# EAGLE library part SWD-20 (library mbed-HDK)
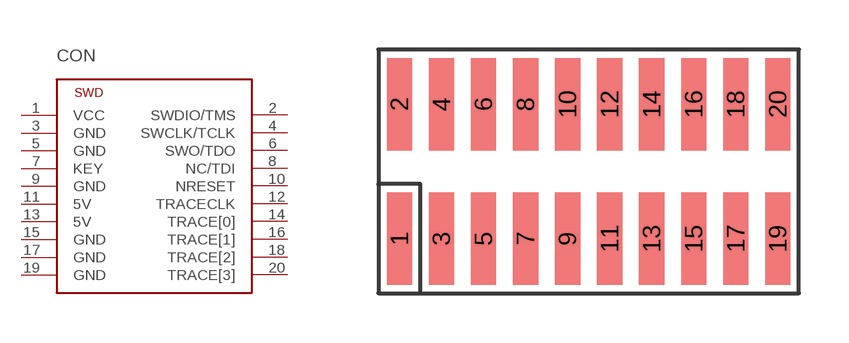
[diagram p29: symbol with the pads of SWD-20-SMD; footprint SWD-20-SMD]

Designator prefix CON

## SWD-20  [SWD-20-SMD]
1  VCC
2  SWDIO/TMS
3  GND
4  SWCLK/TCLK
5  GND
6  SWO/TDO
7  KEY
8  NC/TDI
9  GND
10  NRESET
11  5V
12  TRACECLK
13  5V
14  TRACE[0]
15  GND
16  TRACE[1]
17  GND
18  TRACE[2]
19  GND
20  TRACE[3]

## Footprint SWD-20-SMD (pad centres in mm)
smd 0.762 x 2.794: 1 0.381,-2.032; 2 0.381,2.032; 3 1.651,-2.032; 4 1.651,2.032; 5 2.921,-2.032; 6 2.921,2.032; 7 4.191,-2.032; 8 4.191,2.032; 9 5.461,-2.032; 10 5.461,2.032; 11 6.731,-2.032; 12 6.731,2.032; 13 8.001,-2.032; 14 8.001,2.032; 15 9.271,-2.032; 16 9.271,2.032; 17 10.541,-2.032; 18 10.541,2.032; 19 11.811,-2.032; 20 11.811,2.032